# Altium schematic symbol library SCH - MCU - INFINEON - INFINEON S6E1B36F0XXV2 LQFP-100.SchLib: 1 symbol
Pins are listed as number, name and electrical type; pins without a type are passive.

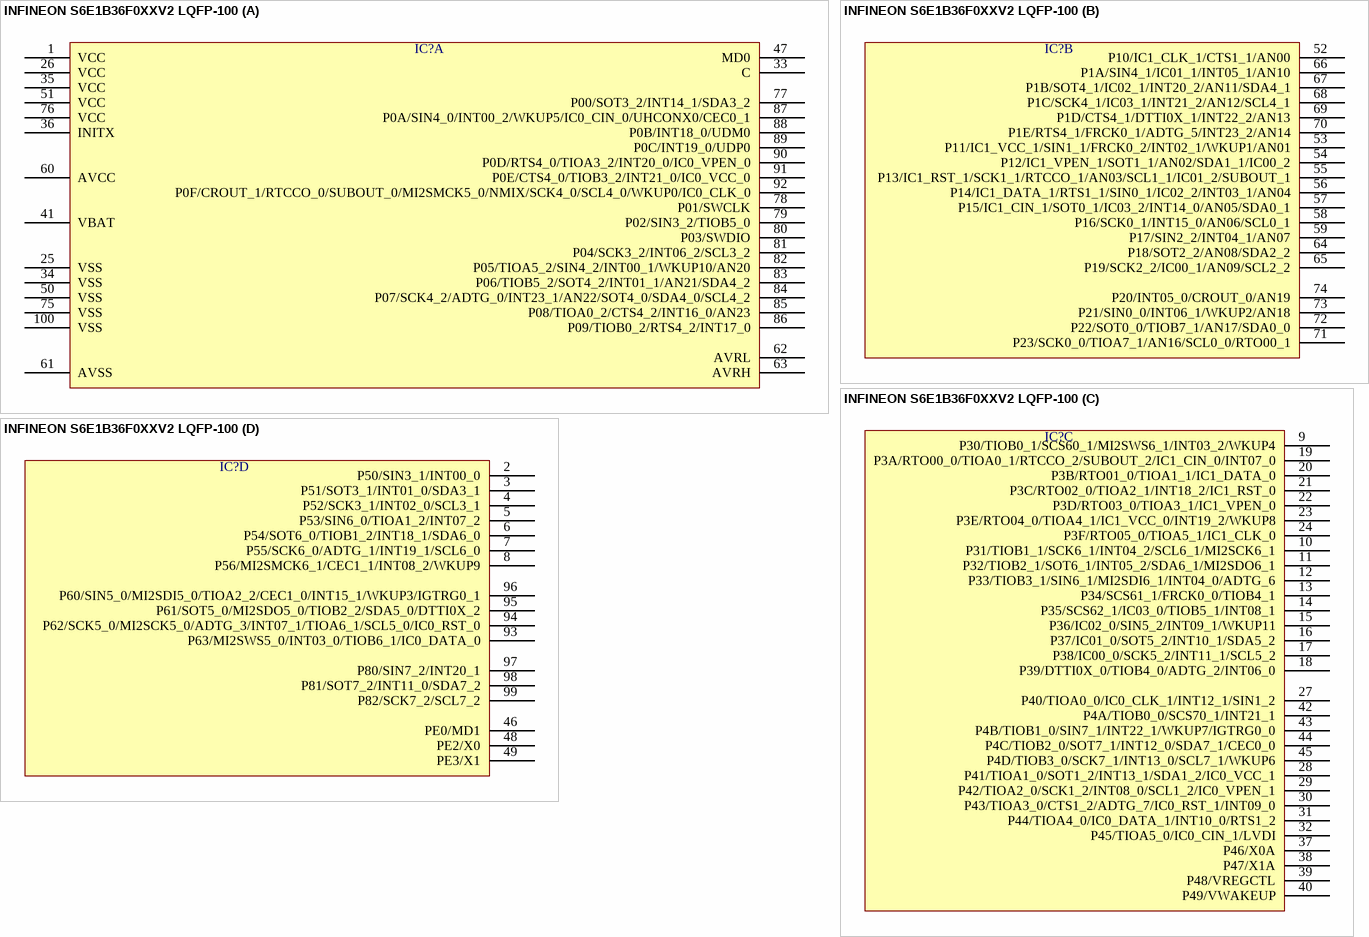
[diagram p0: symbol INFINEON S6E1B36F0XXV2 LQFP-100]

## INFINEON S6E1B36F0XXV2 LQFP-100
designator IC?  (value not drawn)
part A pins: 1 VCC, 25 VSS, 26 VCC, 33 C, 34 VSS, 35 VCC, 36 INITX, 41 VBAT, 47 MD0, 50 VSS, 51 VCC, 60 AVCC, 61 AVSS, 62 AVRL, 63 AVRH, 75 VSS, 76 VCC, 77 P00/SOT3_2/INT14_1/SDA3_2, 78 P01/SWCLK, 79 P02/SIN3_2/TIOB5_0, 80 P03/SWDIO, 81 P04/SCK3_2/INT06_2/SCL3_2, 82 P05/TIOA5_2/SIN4_2/INT00_1/WKUP10/AN20, 83 P06/TIOB5_2/SOT4_2/INT01_1/AN21/SDA4_2, 84 P07/SCK4_2/ADTG_0/INT23_1/AN22/SOT4_0/SDA4_0/SCL4_2, 85 P08/TIOA0_2/CTS4_2/INT16_0/AN23, 86 P09/TIOB0_2/RTS4_2/INT17_0, 87 P0A/SIN4_0/INT00_2/WKUP5/IC0_CIN_0/UHCONX0/CEC0_1, 88 P0B/INT18_0/UDM0, 89 P0C/INT19_0/UDP0, 90 P0D/RTS4_0/TIOA3_2/INT20_0/IC0_VPEN_0, 91 P0E/CTS4_0/TIOB3_2/INT21_0/IC0_VCC_0, 92 P0F/CROUT_1/RTCCO_0/SUBOUT_0/MI2SMCK5_0/NMIX/SCK4_0/SCL4_0/WKUP0/IC0_CLK_0, 100 VSS
part B pins: 52 P10/IC1_CLK_1/CTS1_1/AN00, 53 P11/IC1_VCC_1/SIN1_1/FRCK0_2/INT02_1/WKUP1/AN01, 54 P12/IC1_VPEN_1/SOT1_1/AN02/SDA1_1/IC00_2, 55 P13/IC1_RST_1/SCK1_1/RTCCO_1/AN03/SCL1_1/IC01_2/SUBOUT_1, 56 P14/IC1_DATA_1/RTS1_1/SIN0_1/IC02_2/INT03_1/AN04, 57 P15/IC1_CIN_1/SOT0_1/IC03_2/INT14_0/AN05/SDA0_1, 58 P16/SCK0_1/INT15_0/AN06/SCL0_1, 59 P17/SIN2_2/INT04_1/AN07, 64 P18/SOT2_2/AN08/SDA2_2, 65 P19/SCK2_2/IC00_1/AN09/SCL2_2, 66 P1A/SIN4_1/IC01_1/INT05_1/AN10, 67 P1B/SOT4_1/IC02_1/INT20_2/AN11/SDA4_1, 68 P1C/SCK4_1/IC03_1/INT21_2/AN12/SCL4_1, 69 P1D/CTS4_1/DTTI0X_1/INT22_2/AN13, 70 P1E/RTS4_1/FRCK0_1/ADTG_5/INT23_2/AN14, 71 P23/SCK0_0/TIOA7_1/AN16/SCL0_0/RTO00_1, 72 P22/SOT0_0/TIOB7_1/AN17/SDA0_0, 73 P21/SIN0_0/INT06_1/WKUP2/AN18, 74 P20/INT05_0/CROUT_0/AN19
part C pins: 9 P30/TIOB0_1/SCS60_1/MI2SWS6_1/INT03_2/WKUP4, 10 P31/TIOB1_1/SCK6_1/INT04_2/SCL6_1/MI2SCK6_1, 11 P32/TIOB2_1/SOT6_1/INT05_2/SDA6_1/MI2SDO6_1, 12 P33/TIOB3_1/SIN6_1/MI2SDI6_1/INT04_0/ADTG_6, 13 P34/SCS61_1/FRCK0_0/TIOB4_1, 14 P35/SCS62_1/IC03_0/TIOB5_1/INT08_1, 15 P36/IC02_0/SIN5_2/INT09_1/WKUP11, 16 P37/IC01_0/SOT5_2/INT10_1/SDA5_2, 17 P38/IC00_0/SCK5_2/INT11_1/SCL5_2, 18 P39/DTTI0X_0/TIOB4_0/ADTG_2/INT06_0, 19 P3A/RTO00_0/TIOA0_1/RTCCO_2/SUBOUT_2/IC1_CIN_0/INT07_0, 20 P3B/RTO01_0/TIOA1_1/IC1_DATA_0, 21 P3C/RTO02_0/TIOA2_1/INT18_2/IC1_RST_0, 22 P3D/RTO03_0/TIOA3_1/IC1_VPEN_0, 23 P3E/RTO04_0/TIOA4_1/IC1_VCC_0/INT19_2/WKUP8, 24 P3F/RTO05_0/TIOA5_1/IC1_CLK_0, 27 P40/TIOA0_0/IC0_CLK_1/INT12_1/SIN1_2, 28 P41/TIOA1_0/SOT1_2/INT13_1/SDA1_2/IC0_VCC_1, 29 P42/TIOA2_0/SCK1_2/INT08_0/SCL1_2/IC0_VPEN_1, 30 P43/TIOA3_0/CTS1_2/ADTG_7/IC0_RST_1/INT09_0, 31 P44/TIOA4_0/IC0_DATA_1/INT10_0/RTS1_2, 32 P45/TIOA5_0/IC0_CIN_1/LVDI, 37 P46/X0A, 38 P47/X1A, 39 P48/VREGCTL, 40 P49/VWAKEUP, 42 P4A/TIOB0_0/SCS70_1/INT21_1, 43 P4B/TIOB1_0/SIN7_1/INT22_1/WKUP7/IGTRG0_0, 44 P4C/TIOB2_0/SOT7_1/INT12_0/SDA7_1/CEC0_0, 45 P4D/TIOB3_0/SCK7_1/INT13_0/SCL7_1/WKUP6
part D pins: 2 P50/SIN3_1/INT00_0, 3 P51/SOT3_1/INT01_0/SDA3_1, 4 P52/SCK3_1/INT02_0/SCL3_1, 5 P53/SIN6_0/TIOA1_2/INT07_2, 6 P54/SOT6_0/TIOB1_2/INT18_1/SDA6_0, 7 P55/SCK6_0/ADTG_1/INT19_1/SCL6_0, 8 P56/MI2SMCK6_1/CEC1_1/INT08_2/WKUP9, 46 PE0/MD1, 48 PE2/X0, 49 PE3/X1, 93 P63/MI2SWS5_0/INT03_0/TIOB6_1/IC0_DATA_0, 94 P62/SCK5_0/MI2SCK5_0/ADTG_3/INT07_1/TIOA6_1/SCL5_0/IC0_RST_0, 95 P61/SOT5_0/MI2SDO5_0/TIOB2_2/SDA5_0/DTTI0X_2, 96 P60/SIN5_0/MI2SDI5_0/TIOA2_2/CEC1_0/INT15_1/WKUP3/IGTRG0_1, 97 P80/SIN7_2/INT20_1, 98 P81/SOT7_2/INT11_0/SDA7_2, 99 P82/SCK7_2/SCL7_2